# Altium footprint library NFC_Coil.PcbLib: 1 footprints
Each footprint in its own frame and in the unit in brackets; x right, y up, seen from the top. Pads: shape width x height; smd on the part's side, far side on the other; paste and mask are expansions set on the pad; w line width, h text height; cw(c..) or ccw(c..) is an arc to the next point about the centre after c.
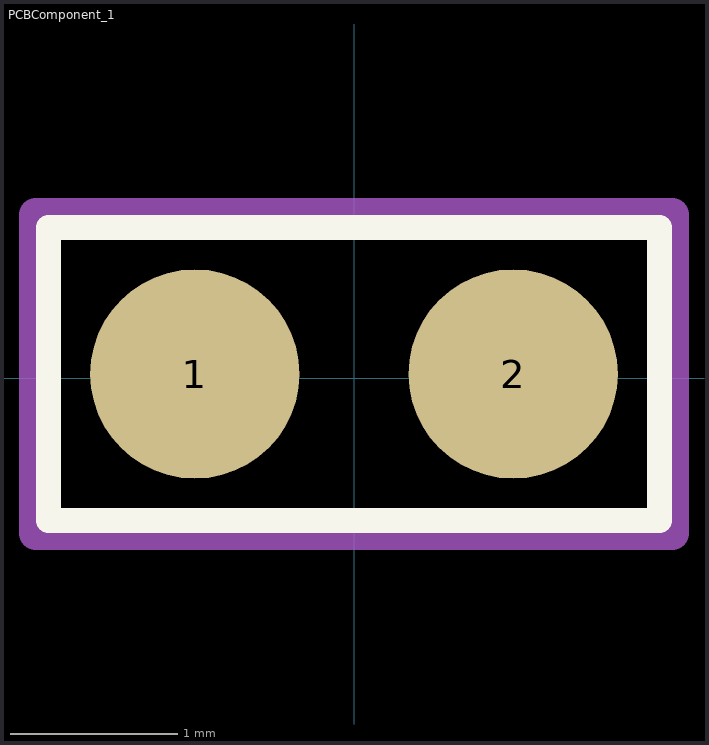
[diagram p0: the footprint, top view; thin cyan lines are the x and y axes]

## PCBComponent_1 [mm]
pads (2):
  round 1.25 smd: 1(-0.95,0.025) 2(0.95,0.025)
Top Overlay:
  lines w0.15: -1.825,-0.85 1.825,-0.85 1.825,0.9 -1.825,0.9 -1.825,-0.85
Mechanical 15:
  lines w0.2: -1.45,0.025 -0.45,0.025 ; -0.95,-0.475 -0.95,0.525 ; 0.45,0.025 1.45,0.025 ; 0.95,-0.475 0.95,0.525 ; -1.9,-0.925 0,-0.925 1.9,-0.925 1.9,0.975 0,0.975 -1.9,0.975 -1.9,-0.925